# EAGLE library part DRV8871 (library Parts)
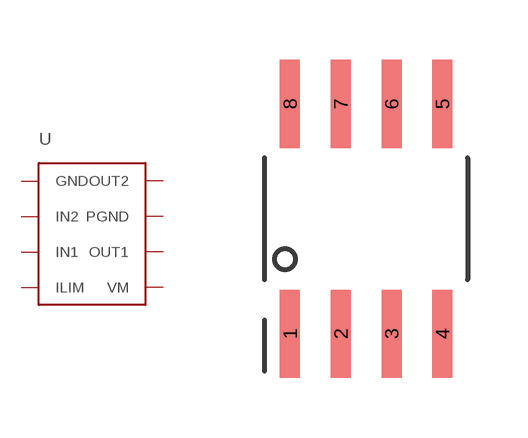
[diagram p3: symbol with the pads of SO-8_POWERPAD; footprint SO-8_POWERPAD]

Designator prefix -

## DRV8871  [SO-8_POWERPAD]
1  GND  pwr
2  IN2  in
3  IN1  in
4  ILIM  in
5  VM  pwr
6  OUT1  out
7  PGND  pwr
8  OUT2  out

## Footprint SO-8_POWERPAD (pad centres in mm)
8-Pin Small Outline Integrated Circuit (SOIC) PowerPAD™ Plastic Small Outline Package contains a relatively large pad on the bottom that should be soldered directly to a large ground plane for thermal dissapiation. Up to six (6) thermal vias should be placed within the PowerPad™ connection.
smd 0.5 x 2.2: 1 -1.905,-2.875; 2 -0.635,-2.875; 3 0.635,-2.875; 4 1.905,-2.875; 5 1.905,2.875; 6 0.635,2.875; 7 -0.635,2.875; 8 -1.905,2.875